# EAGLE library part CON-P5KF-2X05 (library arducorder-mini)
Panasonic P5kF-Series 10-pin low-profile board-to-board connectors. (Socket: AXK5F10547YG and Header: AXK6F10347YG)
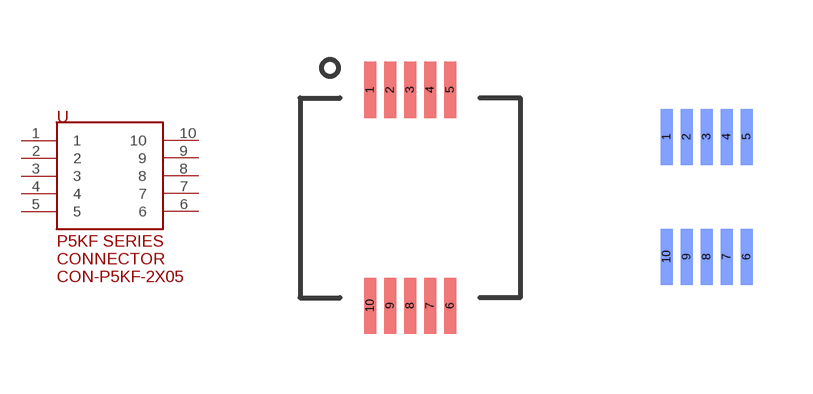
[diagram p16: symbol with the pads of AXK5F10547YG; footprints AXK5F10547YG, AXK6F10347YG]

Designator prefix -

## CON-P5KF-2X05SOCKET  [AXK5F10547YG]
1  1
2  2
3  3
4  4
5  5
6  6
7  7
8  8
9  9
10  10

## CON-P5KF-2X05HEADER  [AXK6F10347YG]
Pads as for AXK5F10547YG

## Footprint AXK5F10547YG (pad centres in mm)
smd 0.3 x 1.4: 1 -1,2.7; 2 -0.5,2.7; 3 0,2.7; 4 0.5,2.7; 5 1,2.7; 6 1,-2.7; 7 0.5,-2.7; 8 0,-2.7; 9 -0.5,-2.7; 10 -1,-2.7

## Footprint AXK6F10347YG (pad centres in mm)
smd 0.3 x 1.4 bottom: 1 -1,1.5; 2 -0.5,1.5; 3 0,1.5; 4 0.5,1.5; 5 1,1.5; 6 1,-1.5; 7 0.5,-1.5; 8 0,-1.5; 9 -0.5,-1.5; 10 -1,-1.5